# Altium schematic symbol library Crystal.SchLib: 1 symbol
Pins are listed as number, name and electrical type; pins without a type are passive.

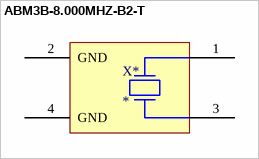
[diagram p0: symbol ABM3B-8.000MHZ-B2-T]

## ABM3B-8.000MHZ-B2-T
designator X*
pins: 1, 2 GND, 3, 4 GND